# EAGLE library part MAX9709 (library maxim_9709)
Class D PA
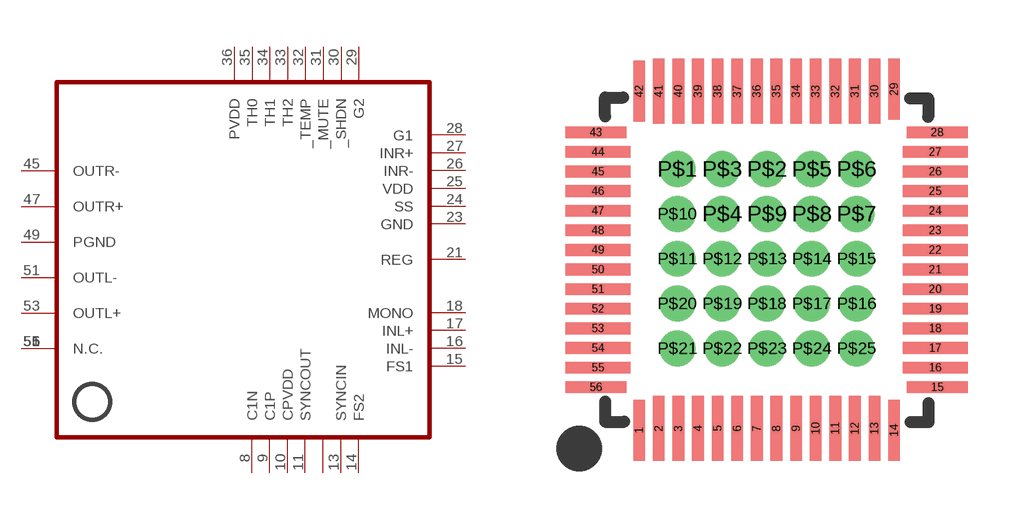
[diagram p3: symbol with the pads of 56-QFN; footprint 56-QFN]

Designator prefix -

## MAX9709  [56-QFN]
1  N.C.  nc
2  PGND$2  pwr
3  PGND$3  pwr
4  PGND$4  pwr
5  PVDD$5  pwr
6  PVDD$6  pwr
7  PVDD$7  pwr
8  C1N
9  C1P
10  CPVDD
11  SYNCOUT
12  N.C.$12  nc
13  SYNCIN
14  FS2
15  FS1
16  INL-
17  INL+
18  MONO
19  REG3  pwr
20  REG2  pwr
21  REG  pwr
22  GND2  pwr
23  GND  pwr
24  SS
25  VDD
26  INR-
27  INR+
28  G1
29  G2
30  _SHDN
31  _MUTE
32  _TEMP
33  TH2
34  TH1
35  TH0
36  PVDD  pwr
37  PVDD$37  pwr
38  PVDD$38  pwr
39  PGND$39  pwr
40  PGND$40  pwr
41  PGND$41  pwr
42  N.C.$42  nc
43  N.C.$43  nc
44  N.C.$44  nc
45  OUTR-  pwr
46  OUTR-2  pwr
47  OUTR+  pwr
48  OUTR+2  pwr
49  PGND  pwr
50  PGND$8  pwr
51  OUTL-  pwr
52  OUTL-2  pwr
53  OUTL+  pwr
54  OUTL+2  pwr
55  N.C.$55  nc
56  N.C.$56  nc
P$1  GND1  pwr
P$2  GND3  pwr
P$3  GND4  pwr
P$4  GND5  pwr
P$5  GND6  pwr
P$6  GND7  pwr
P$7  GND8  pwr
P$8  GND9  pwr
P$9  GND10  pwr
P$10  GND11  pwr
P$11  GND12  pwr
P$12  GND13  pwr
P$13  GND14  pwr
P$14  GND15  pwr
P$15  GND16  pwr
P$16  GND17  pwr
P$17  GND18  pwr
P$18  GND19  pwr
P$19  GND20  pwr
P$20  GND21  pwr
P$21  GND22  pwr
P$22  GND23  pwr
P$23  GND24  pwr
P$24  GND25  pwr
P$25  GND26  pwr

## Footprint 56-QFN (pad centres in mm)
smd 0.3 x 1.548: 1 -2.75,-3.081; 14 3.75,-3.081; 29 3.75,5.621; 42 -2.75,5.57
smd 0.3 x 1.65: 2 -2.25,-3.03; 3 -1.75,-3.03; 4 -1.25,-3.03; 5 -0.75,-3.03; 6 -0.25,-3.03; 7 0.25,-3.03; 8 0.75,-3.03; 9 1.25,-3.03; 10 1.75,-3.03; 11 2.25,-3.03; 12 2.75,-3.03; 13 3.25,-3.03; 30 3.25,5.57; 31 2.75,5.57; 32 2.25,5.57; 33 1.75,5.57; 34 1.25,5.57; 35 0.75,5.57; 36 0.25,5.57; 37 -0.25,5.57; 38 -0.75,5.57; 39 -1.25,5.57; 40 -1.75,5.57; 41 -2.25,5.57
smd 1.548 x 0.3: 15 4.851,-1.98; 28 4.851,4.52; 43 -3.851,4.52; 56 -3.851,-1.98
smd 1.65 x 0.3: 16 4.8,-1.48; 17 4.8,-0.98; 18 4.8,-0.48; 19 4.8,0.02; 20 4.8,0.52; 21 4.8,1.02; 22 4.8,1.52; 23 4.8,2.02; 24 4.8,2.52; 25 4.8,3.02; 26 4.8,3.52; 27 4.8,4.02; 44 -3.8,4.02; 45 -3.8,3.52; 46 -3.8,3.02; 47 -3.8,2.52; 48 -3.8,2.02; 49 -3.8,1.52; 50 -3.8,1.02; 51 -3.8,0.52; 52 -3.8,0.02; 53 -3.8,-0.48; 54 -3.8,-0.98; 55 -3.8,-1.48
drill 0.406: P$1 -1.778,3.581; P$2 0.508,3.581; P$3 -0.635,3.581; P$4 -0.635,2.438; P$5 1.651,3.581; P$6 2.794,3.581; P$7 2.794,2.438; P$8 1.651,2.438; P$9 0.508,2.438; P$10 -1.778,2.438; P$11 -1.778,1.295; P$12 -0.635,1.295; P$13 0.508,1.295; P$14 1.651,1.295; P$15 2.794,1.295; P$16 2.794,0.152; P$17 1.651,0.152; P$18 0.508,0.152; P$19 -0.635,0.152; P$20 -1.778,0.152; P$21 -1.778,-0.991; P$22 -0.635,-0.991; P$23 0.508,-0.991; P$24 1.651,-0.991; P$25 2.794,-0.991